# EAGLE library part BGS12PN10 (library BGS12PN10)
BGS12PN10 Datasheet: https://www.infineon.com/dgdl/Infineon-BGS12PN10-DS-v01_00-EN.pdf?fileId=5546d46256fb43b30157565d296541b1
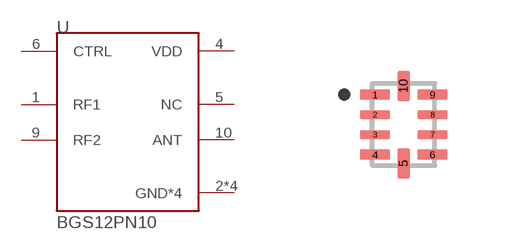
[diagram p0: symbol with the pads of QFN50P200X150X40-10N; footprint QFN50P200X150X40-10N]

Designator prefix U

## BGS12PN10  [QFN50P200X150X40-10N]
1  RF1
2  GND*4  pwr
3  GND*4  pwr
4  VDD  pwr
5  NC  nc
6  CTRL  in
7  GND*4  pwr
8  GND*4  pwr
9  RF2
10  ANT

## Footprint QFN50P200X150X40-10N (pad centres in mm)
smd 0.76 x 0.27: 1 -0.72,0.75; 4 -0.72,-0.75; 6 0.72,-0.75; 9 0.72,0.75
smd 0.76 x 0.22: 2 -0.72,0.25; 3 -0.72,-0.25; 7 0.72,-0.25; 8 0.72,0.25
smd 0.32 x 0.76: 5 0,-0.97; 10 0,0.97